# Altium schematic symbol library NTB0104BQ,115.SchLib: 1 symbol
Pins are listed as number, name and electrical type; pins without a type are passive.

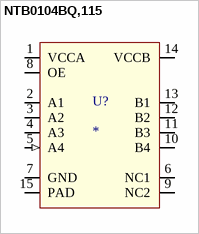
[diagram p0: symbol NTB0104BQ,115]

## NTB0104BQ,115
designator U?
footprint DHVQFN-14
pins: 1 VCCA (power), 2 A1 (io), 3 A2 (io), 4 A3 (io), 5 A4 (in), 6 NC1, 7 GND (power), 8 OE, 9 NC2, 10 B4 (io), 11 B3 (io), 12 B2 (io), 13 B1 (io), 14 VCCB (power), 15 PAD